# Altium integrated library Atmel Microcontroller 8-Bit Automotive AVR.IntLib: 187 symbols (part 7 of 9)
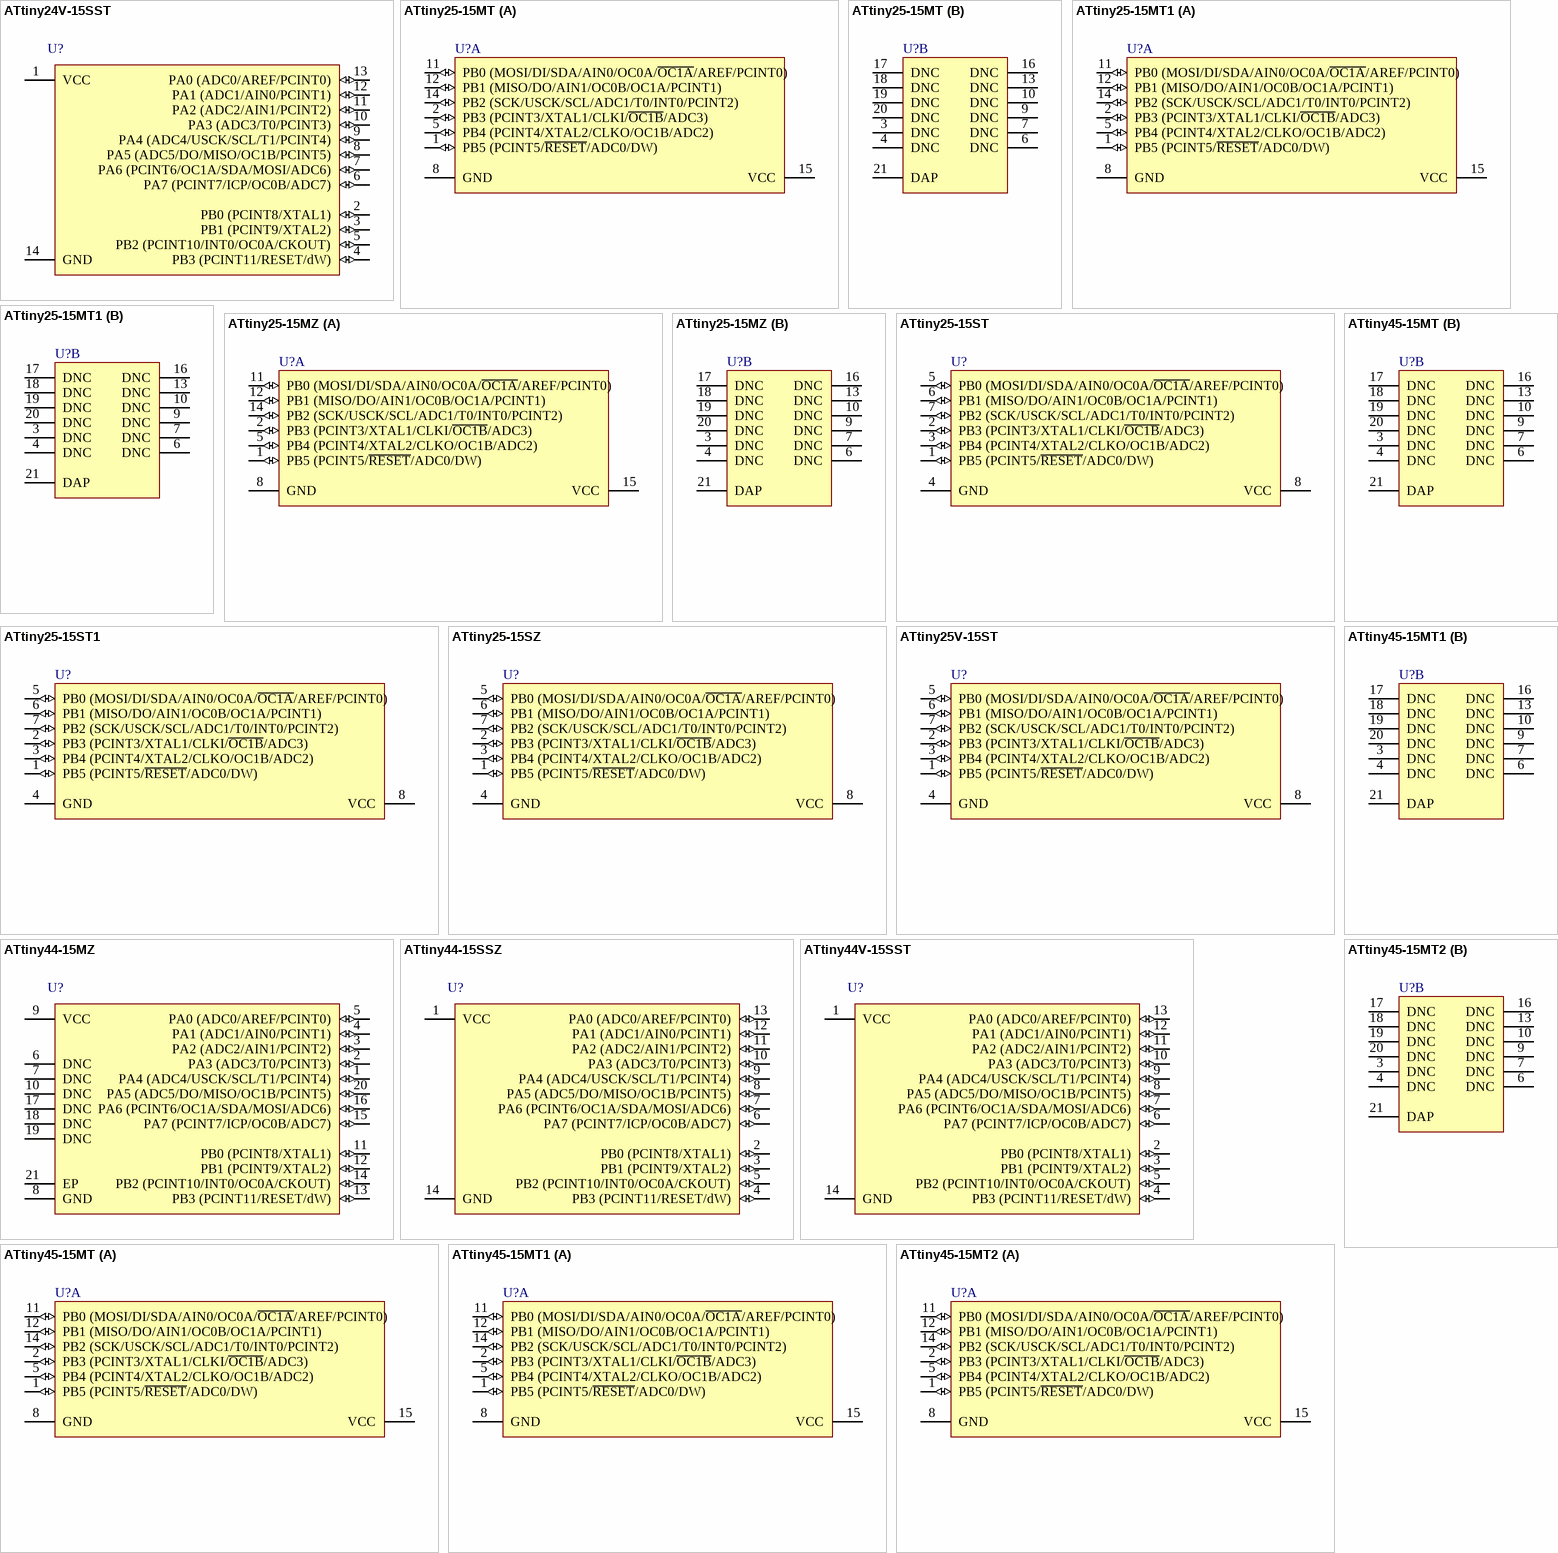
[diagram p27: symbols ATtiny24V-15SST to ATtiny45-15MT2]

## ATtiny44-15MZ
designator U?
8-bit Automotive AVR Microcontroller, 4KB Flash, 256 Bytes EEPROM, 256 Bytes SRAM, Automotive Grade (-40° to +125°C), 20-Pin VQFN; Published: 1-Apr-2010; DatasheetVersion: revB, Sep-2007; PackageVersion: revG, Jul-2007; PackageReference: 20PC; Publisher: Altium Limited; PackageDescription: 20-Lead, 4 x 4 x 0.8 mm Body, 0.50 mm Pitch, Quad Flat No-Lead Package (QFN); Supplier 1: Digi-Key; Supplier Part Number 1: ATTINY44-15MZ-ND; Supplier 2: Mouser; Supplier Part Number 2: 556-ATTINY44-15MZ; Code_JEDEC: MO-220WGGD-5; ComponentLink1Description: Manufacturer Link; ComponentLink1URL: http://www.atmel.com/products/avr/default.asp?; ComponentLink2Description: ATtiny24/44/84 Datasheet; ComponentLink2URL: http://www.atmel.com/dyn/resources/prod_documents/doc7701.pdf; ComponentLink3Description: Atmel.com Home; ComponentLink3URL: http://www.atmel.com
footprint 20PC_N (QFN, 20-Leads, Body 4x4mm, Pitch 0.5mm, IPC Medium Density)
footprint 20PC_L (QFN, 20-Leads, Body 4x4mm, Pitch 0.5mm, IPC High Density)
footprint 20PC_M (QFN, 20-Leads, Body 4x4mm, Pitch 0.5mm, IPC Low Density)
pins: 1 PA4 (ADC4/USCK/SCL/T1/PCINT4) (io), 2 PA3 (ADC3/T0/PCINT3) (io), 3 PA2 (ADC2/AIN1/PCINT2) (io), 4 PA1 (ADC1/AIN0/PCINT1) (io), 5 PA0 (ADC0/AREF/PCINT0) (io), 6 DNC, 7 DNC, 8 GND (power), 9 VCC (power), 10 DNC, 11 PB0 (PCINT8/XTAL1) (io), 12 PB1 (PCINT9/XTAL2) (io), 13 PB3 (PCINT11/RESET/dW) (io), 14 PB2 (PCINT10/INT0/OC0A/CKOUT) (io), 15 PA7 (PCINT7/ICP/OC0B/ADC7) (io), 16 PA6 (PCINT6/OC1A/SDA/MOSI/ADC6) (io), 17 DNC, 18 DNC, 19 DNC, 20 PA5 (ADC5/DO/MISO/OC1B/PCINT5) (io), 21 EP (power)

## ATtiny44-15SSZ
designator U?
8-bit Automotive AVR Microcontroller, 4KB Flash, 256 Bytes EEPROM, 256 Bytes SRAM, Automotive Grade (-40° to +125°C), 14-Pin SOIC; Published: 1-Apr-2010; DatasheetVersion: revB, Sep-2007; PackageVersion: revC, Jul-2007; PackageReference: 14TU; Publisher: Altium Limited; PackageDescription: 14-Lead, 0.150” Body Width Plastic Gull Wing Small Outline Package (SOIC); Supplier 1: Digi-Key; Supplier Part Number 1: ATTINY44-15SSZ-ND; Supplier 2: Mouser; Supplier Part Number 2: 556-ATTINY44-15SSZ; Code_IPC: SOIC127P600-14; ComponentLink1Description: Manufacturer Link; ComponentLink1URL: http://www.atmel.com/products/avr/default.asp?; ComponentLink2Description: ATtiny24/44/84 Datasheet; ComponentLink2URL: http://www.atmel.com/dyn/resources/prod_documents/doc7701.pdf; ComponentLink3Description: Atmel.com Home; ComponentLink3URL: http://www.atmel.com
footprint 14TU_N (SOIC, 14-Leads, Body 8.6x3.9mm, Pitch 1.27mm, IPC Medium Density)
footprint 14TU_L (SOIC, 14-Leads, Body 8.6x3.9mm, Pitch 1.27mm, IPC High Density)
footprint 14TU_M (SOIC, 14-Leads, Body 8.6x3.9mm, Pitch 1.27mm, IPC Low Density)
pins: 1 VCC (power), 2 PB0 (PCINT8/XTAL1) (io), 3 PB1 (PCINT9/XTAL2) (io), 4 PB3 (PCINT11/RESET/dW) (io), 5 PB2 (PCINT10/INT0/OC0A/CKOUT) (io), 6 PA7 (PCINT7/ICP/OC0B/ADC7) (io), 7 PA6 (PCINT6/OC1A/SDA/MOSI/ADC6) (io), 8 PA5 (ADC5/DO/MISO/OC1B/PCINT5) (io), 9 PA4 (ADC4/USCK/SCL/T1/PCINT4) (io), 10 PA3 (ADC3/T0/PCINT3) (io), 11 PA2 (ADC2/AIN1/PCINT2) (io), 12 PA1 (ADC1/AIN0/PCINT1) (io), 13 PA0 (ADC0/AREF/PCINT0) (io), 14 GND (power)

## ATtiny44V-15SST
designator U?
8-bit Automotive AVR Microcontroller, 4KB Flash, 256 Bytes EEPROM, 256 Bytes SRAM, Automotive Grade (-40°C to +85°C), 14-Pin SOIC; Published: 1-Apr-2010; DatasheetVersion: revB, Sep-2007; PackageVersion: revC, Jul-2007; PackageReference: 14TU; Publisher: Altium Limited; PackageDescription: 14-Lead, 0.150” Body Width Plastic Gull Wing Small Outline Package (SOIC); Supplier 1: Digi-Key; Supplier Part Number 1: ATTINY44V-15SST-ND; Supplier 2: Mouser; Supplier Part Number 2: 556-ATTINY44V-15SST; Code_IPC: SOIC127P600-14; ComponentLink1Description: Manufacturer Link; ComponentLink1URL: http://www.atmel.com/products/avr/default.asp?; ComponentLink2Description: ATtiny24/44/84 Datasheet; ComponentLink2URL: http://www.atmel.com/dyn/resources/prod_documents/doc7701.pdf; ComponentLink3Description: ATtiny24V/44V/84V Appendix; ComponentLink3URL: http://www.atmel.com/dyn/resources/prod_documents/doc7819.pdf; ComponentLink4Description: Atmel.com Home; ComponentLink4URL: http://www.atmel.com
footprint 14TU_N (SOIC, 14-Leads, Body 8.6x3.9mm, Pitch 1.27mm, IPC Medium Density)
footprint 14TU_L (SOIC, 14-Leads, Body 8.6x3.9mm, Pitch 1.27mm, IPC High Density)
footprint 14TU_M (SOIC, 14-Leads, Body 8.6x3.9mm, Pitch 1.27mm, IPC Low Density)
pins: 1 VCC (power), 2 PB0 (PCINT8/XTAL1) (io), 3 PB1 (PCINT9/XTAL2) (io), 4 PB3 (PCINT11/RESET/dW) (io), 5 PB2 (PCINT10/INT0/OC0A/CKOUT) (io), 6 PA7 (PCINT7/ICP/OC0B/ADC7) (io), 7 PA6 (PCINT6/OC1A/SDA/MOSI/ADC6) (io), 8 PA5 (ADC5/DO/MISO/OC1B/PCINT5) (io), 9 PA4 (ADC4/USCK/SCL/T1/PCINT4) (io), 10 PA3 (ADC3/T0/PCINT3) (io), 11 PA2 (ADC2/AIN1/PCINT2) (io), 12 PA1 (ADC1/AIN0/PCINT1) (io), 13 PA0 (ADC0/AREF/PCINT0) (io), 14 GND (power)

## ATtiny45-15MT
designator U?
8-bit Automotive AVR Microcontroller, 4KB Flash, 256 Bytes EEPROM, 256 Bytes SRAM, Automotive Grade (-40°C to +85°C), 20-Pin VQFN; Published: 1-Apr-2010; DatasheetVersion: revH, Jul-2009; PackageVersion: revG, Jul-2007; PackageReference: 20PC; Publisher: Altium Limited; PackageDescription: 20-Lead, 4 x 4 x 0.8 mm Body, 0.50 mm Pitch, Quad Flat No-Lead Package (QFN); Supplier 1: Digi-Key; Supplier Part Number 1: ATTINY45-15MT-ND; Supplier 2: Mouser; Supplier Part Number 2: 556-ATTINY45-15MT; Code_JEDEC: MO-220WGGD-5; ComponentLink1Description: Manufacturer Link; ComponentLink1URL: http://www.atmel.com/products/avr/default.asp?; ComponentLink2Description: ATtiny25/45/85 Datasheet; ComponentLink2URL: http://www.atmel.com/dyn/resources/prod_documents/doc7598.pdf; ComponentLink3Description: Atmel.com Home; ComponentLink3URL: http://www.atmel.com
footprint 20PC_N (QFN, 20-Leads, Body 4x4mm, Pitch 0.5mm, IPC Medium Density)
footprint 20PC_L (QFN, 20-Leads, Body 4x4mm, Pitch 0.5mm, IPC High Density)
footprint 20PC_M (QFN, 20-Leads, Body 4x4mm, Pitch 0.5mm, IPC Low Density)
part A pins: 1 PB5 (PCINT5/~{RESET}/ADC0/DW) (io), 2 PB3 (PCINT3/XTAL1/CLKI/~{OC1B}/ADC3) (io), 5 PB4 (PCINT4/XTAL2/CLKO/OC1B/ADC2) (io), 8 GND (power), 11 PB0 (MOSI/DI/SDA/AIN0/OC0A/~{OC1A}/AREF/PCINT0) (io), 12 PB1 (MISO/DO/AIN1/OC0B/OC1A/PCINT1) (io), 14 PB2 (SCK/USCK/SCL/ADC1/T0/INT0/PCINT2) (io), 15 VCC (power)
part B pins: 3 DNC, 4 DNC, 6 DNC, 7 DNC, 9 DNC, 10 DNC, 13 DNC, 16 DNC, 17 DNC, 18 DNC, 19 DNC, 20 DNC, 21 DAP

## ATtiny45-15MT1
designator U?
8-bit Automotive AVR Microcontroller, 4KB Flash, 256 Bytes EEPROM, 256 Bytes SRAM, Automotive Grade (-40°C to +105°C), 20-Pin VQFN; Published: 1-Apr-2010; DatasheetVersion: revH, Jul-2009; PackageVersion: revG, Jul-2007; PackageReference: 20PC; Publisher: Altium Limited; PackageDescription: 20-Lead, 4 x 4 x 0.8 mm Body, 0.50 mm Pitch, Quad Flat No-Lead Package (QFN); Supplier 1: Digi-Key; Supplier Part Number 1: ATTINY45-15MT1-ND; Supplier 2: Mouser; Supplier Part Number 2: 556-ATTINY45-15MT1; Code_JEDEC: MO-220WGGD-5; ComponentLink1Description: Manufacturer Link; ComponentLink1URL: http://www.atmel.com/products/avr/default.asp?; ComponentLink2Description: ATtiny25/45/85 Datasheet; ComponentLink2URL: http://www.atmel.com/dyn/resources/prod_documents/doc7598.pdf; ComponentLink3Description: Atmel.com Home; ComponentLink3URL: http://www.atmel.com
footprint 20PC_N (QFN, 20-Leads, Body 4x4mm, Pitch 0.5mm, IPC Medium Density)
footprint 20PC_L (QFN, 20-Leads, Body 4x4mm, Pitch 0.5mm, IPC High Density)
footprint 20PC_M (QFN, 20-Leads, Body 4x4mm, Pitch 0.5mm, IPC Low Density)
part A pins: 1 PB5 (PCINT5/~{RESET}/ADC0/DW) (io), 2 PB3 (PCINT3/XTAL1/CLKI/~{OC1B}/ADC3) (io), 5 PB4 (PCINT4/XTAL2/CLKO/OC1B/ADC2) (io), 8 GND (power), 11 PB0 (MOSI/DI/SDA/AIN0/OC0A/~{OC1A}/AREF/PCINT0) (io), 12 PB1 (MISO/DO/AIN1/OC0B/OC1A/PCINT1) (io), 14 PB2 (SCK/USCK/SCL/ADC1/T0/INT0/PCINT2) (io), 15 VCC (power)
part B pins: 3 DNC, 4 DNC, 6 DNC, 7 DNC, 9 DNC, 10 DNC, 13 DNC, 16 DNC, 17 DNC, 18 DNC, 19 DNC, 20 DNC, 21 DAP

## ATtiny45-15MT2
designator U?
8-bit Automotive AVR Microcontroller, 4KB Flash, 256 Bytes EEPROM, 256 Bytes SRAM, Extended Grade (-40°C to +150°C), 20-Pin VQFN; Published: 1-Apr-2010; DatasheetVersion: revH, Jul-2009; PackageVersion: revG, Jul-2007; PackageReference: 20PC; Publisher: Altium Limited; PackageDescription: 20-Lead, 4 x 4 x 0.8 mm Body, 0.50 mm Pitch, Quad Flat No-Lead Package (QFN); Supplier 1: Digi-Key; Supplier Part Number 1: ATTINY45-15MT2-ND; Supplier 2: Mouser; Supplier Part Number 2: 556-ATTINY45-15MT2; Code_JEDEC: MO-220WGGD-5; ComponentLink1Description: Manufacturer Link; ComponentLink1URL: http://www.atmel.com/products/avr/default.asp?; ComponentLink2Description: ATtiny25/45/85 Datasheet; ComponentLink2URL: http://www.atmel.com/dyn/resources/prod_documents/doc7598.pdf; ComponentLink3Description: ATtiny45 Appendix; ComponentLink3URL: http://www.atmel.com/dyn/resources/prod_documents/doc7696.pdf; ComponentLink4Description: Atmel.com Home; ComponentLink4URL: http://www.atmel.com
footprint 20PC_N (QFN, 20-Leads, Body 4x4mm, Pitch 0.5mm, IPC Medium Density)
footprint 20PC_L (QFN, 20-Leads, Body 4x4mm, Pitch 0.5mm, IPC High Density)
footprint 20PC_M (QFN, 20-Leads, Body 4x4mm, Pitch 0.5mm, IPC Low Density)
part A pins: 1 PB5 (PCINT5/~{RESET}/ADC0/DW) (io), 2 PB3 (PCINT3/XTAL1/CLKI/~{OC1B}/ADC3) (io), 5 PB4 (PCINT4/XTAL2/CLKO/OC1B/ADC2) (io), 8 GND (power), 11 PB0 (MOSI/DI/SDA/AIN0/OC0A/~{OC1A}/AREF/PCINT0) (io), 12 PB1 (MISO/DO/AIN1/OC0B/OC1A/PCINT1) (io), 14 PB2 (SCK/USCK/SCL/ADC1/T0/INT0/PCINT2) (io), 15 VCC (power)
part B pins: 3 DNC, 4 DNC, 6 DNC, 7 DNC, 9 DNC, 10 DNC, 13 DNC, 16 DNC, 17 DNC, 18 DNC, 19 DNC, 20 DNC, 21 DAP

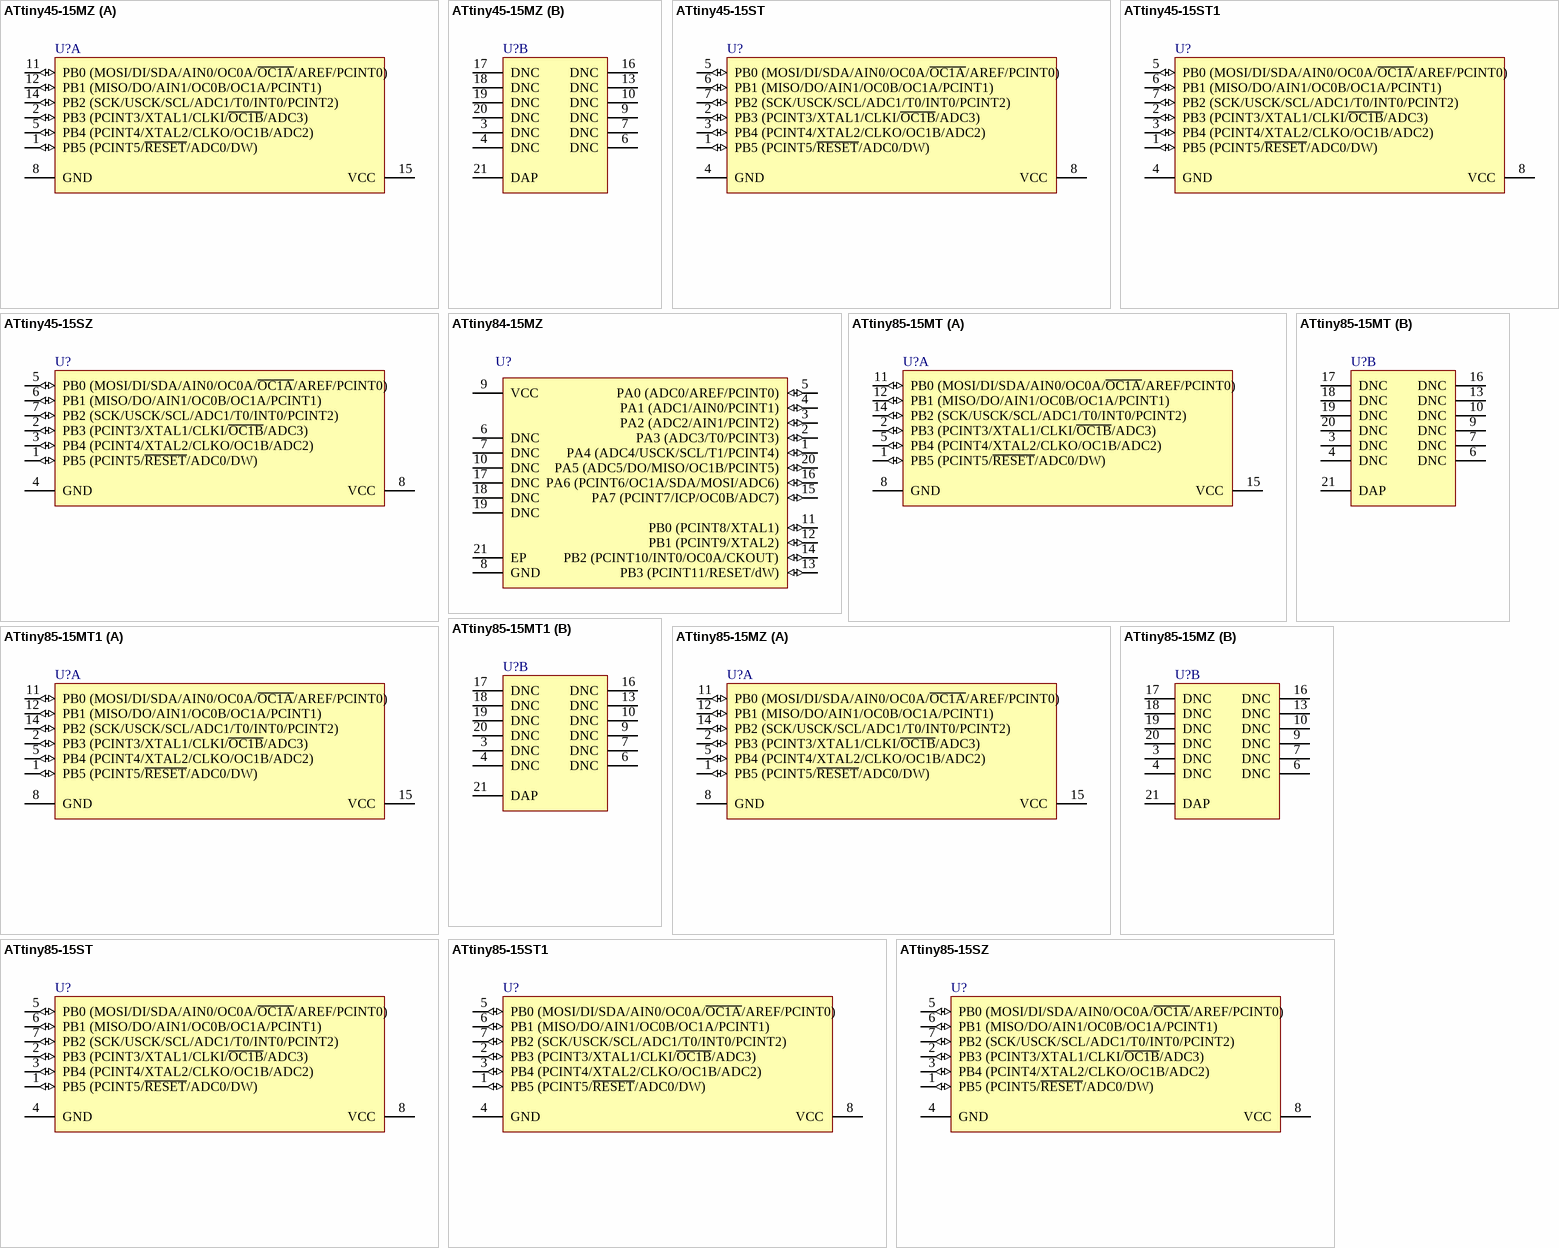
[diagram p17: symbols ATtiny45-15MZ to ATtiny85-15SZ]

## ATtiny45-15MZ
designator U?
8-bit Automotive AVR Microcontroller, 4KB Flash, 256 Bytes EEPROM, 256 Bytes SRAM, Automotive Grade (-40°C to +125°C), 20-Pin VQFN; Published: 1-Apr-2010; DatasheetVersion: revH, Jul-2009; PackageVersion: revG, Jul-2007; PackageReference: 20PC; Publisher: Altium Limited; PackageDescription: 20-Lead, 4 x 4 x 0.8 mm Body, 0.50 mm Pitch, Quad Flat No-Lead Package (QFN); Supplier 1: Digi-Key; Supplier Part Number 1: ATTINY45-15MZ-ND; Supplier 2: Mouser; Supplier Part Number 2: 556-ATTINY45-15MZ; Code_JEDEC: MO-220WGGD-5; ComponentLink1Description: Manufacturer Link; ComponentLink1URL: http://www.atmel.com/products/avr/default.asp?; ComponentLink2Description: ATtiny25/45/85 Datasheet; ComponentLink2URL: http://www.atmel.com/dyn/resources/prod_documents/doc7598.pdf; ComponentLink3Description: Atmel.com Home; ComponentLink3URL: http://www.atmel.com
footprint 20PC_N (QFN, 20-Leads, Body 4x4mm, Pitch 0.5mm, IPC Medium Density)
footprint 20PC_L (QFN, 20-Leads, Body 4x4mm, Pitch 0.5mm, IPC High Density)
footprint 20PC_M (QFN, 20-Leads, Body 4x4mm, Pitch 0.5mm, IPC Low Density)
part A pins: 1 PB5 (PCINT5/~{RESET}/ADC0/DW) (io), 2 PB3 (PCINT3/XTAL1/CLKI/~{OC1B}/ADC3) (io), 5 PB4 (PCINT4/XTAL2/CLKO/OC1B/ADC2) (io), 8 GND (power), 11 PB0 (MOSI/DI/SDA/AIN0/OC0A/~{OC1A}/AREF/PCINT0) (io), 12 PB1 (MISO/DO/AIN1/OC0B/OC1A/PCINT1) (io), 14 PB2 (SCK/USCK/SCL/ADC1/T0/INT0/PCINT2) (io), 15 VCC (power)
part B pins: 3 DNC, 4 DNC, 6 DNC, 7 DNC, 9 DNC, 10 DNC, 13 DNC, 16 DNC, 17 DNC, 18 DNC, 19 DNC, 20 DNC, 21 DAP

## ATtiny45-15ST
designator U?
8-bit Automotive AVR Microcontroller, 4KB Flash, 256 Bytes EEPROM, 256 Bytes SRAM, Automotive Grade (-40°C to +85°C), 8-Pin SOIC; Published: 1-Apr-2010; DatasheetVersion: revH, Jul-2009; PackageVersion: 2009; PackageReference: T5; Publisher: Altium Limited; PackageDescription: 8-Lead, 0.208" Body, Plastic Small Outline Package; Supplier 1: Digi-Key; Supplier Part Number 1: ATTINY45-15ST-ND; Supplier 2: Mouser; Supplier Part Number 2: 556-ATTINY45-15ST; ComponentLink1Description: Manufacturer Link; ComponentLink1URL: http://www.atmel.com/products/avr/default.asp?; ComponentLink2Description: ATtiny25/45/85 Datasheet; ComponentLink2URL: http://www.atmel.com/dyn/resources/prod_documents/doc7598.pdf; ComponentLink3Description: Atmel.com Home; ComponentLink3URL: http://www.atmel.com
footprint T5_N (SOP, 8-Leads, Body 5.2x5.3mm, Pitch 1.27mm, IPC Medium Density)
footprint T5_L (SOP, 8-Leads, Body 5.2x5.3mm, Pitch 1.27mm, IPC High Density)
footprint T5_M (SOP, 8-Leads, Body 5.2x5.3mm, Pitch 1.27mm, IPC Low Density)
pins: 1 PB5 (PCINT5/~{RESET}/ADC0/DW) (io), 2 PB3 (PCINT3/XTAL1/CLKI/~{OC1B}/ADC3) (io), 3 PB4 (PCINT4/XTAL2/CLKO/OC1B/ADC2) (io), 4 GND (power), 5 PB0 (MOSI/DI/SDA/AIN0/OC0A/~{OC1A}/AREF/PCINT0) (io), 6 PB1 (MISO/DO/AIN1/OC0B/OC1A/PCINT1) (io), 7 PB2 (SCK/USCK/SCL/ADC1/T0/INT0/PCINT2) (io), 8 VCC (power)

## ATtiny45-15ST1
designator U?
8-bit Automotive AVR Microcontroller, 4KB Flash, 256 Bytes EEPROM, 256 Bytes SRAM, Automotive Grade (-40°C to +105°C), 8-Pin SOIC; Published: 1-Apr-2010; DatasheetVersion: revH, Jul-2009; PackageVersion: 2009; PackageReference: T5; Publisher: Altium Limited; PackageDescription: 8-Lead, 0.208" Body, Plastic Small Outline Package; Supplier 1: Digi-Key; Supplier Part Number 1: ATTINY45-15ST1-ND; Supplier 2: Mouser; Supplier Part Number 2: 556-ATTINY45-15ST1; ComponentLink1Description: Manufacturer Link; ComponentLink1URL: http://www.atmel.com/products/avr/default.asp?; ComponentLink2Description: ATtiny25/45/85 Datasheet; ComponentLink2URL: http://www.atmel.com/dyn/resources/prod_documents/doc7598.pdf; ComponentLink3Description: Atmel.com Home; ComponentLink3URL: http://www.atmel.com
footprint T5_N (SOP, 8-Leads, Body 5.2x5.3mm, Pitch 1.27mm, IPC Medium Density)
footprint T5_L (SOP, 8-Leads, Body 5.2x5.3mm, Pitch 1.27mm, IPC High Density)
footprint T5_M (SOP, 8-Leads, Body 5.2x5.3mm, Pitch 1.27mm, IPC Low Density)
pins: 1 PB5 (PCINT5/~{RESET}/ADC0/DW) (io), 2 PB3 (PCINT3/XTAL1/CLKI/~{OC1B}/ADC3) (io), 3 PB4 (PCINT4/XTAL2/CLKO/OC1B/ADC2) (io), 4 GND (power), 5 PB0 (MOSI/DI/SDA/AIN0/OC0A/~{OC1A}/AREF/PCINT0) (io), 6 PB1 (MISO/DO/AIN1/OC0B/OC1A/PCINT1) (io), 7 PB2 (SCK/USCK/SCL/ADC1/T0/INT0/PCINT2) (io), 8 VCC (power)

## ATtiny45-15SZ
designator U?
8-bit Automotive AVR Microcontroller, 4KB Flash, 256 Bytes EEPROM, 256 Bytes SRAM, Automotive Grade (-40°C to +125°C), 8-Pin SOIC; Published: 1-Apr-2010; DatasheetVersion: revH, Jul-2009; PackageVersion: 2009; PackageReference: T5; Publisher: Altium Limited; PackageDescription: 8-Lead, 0.208" Body, Plastic Small Outline Package; Supplier 1: Digi-Key; Supplier Part Number 1: ATTINY45-15SZ-ND; ComponentLink1Description: Manufacturer Link; ComponentLink1URL: http://www.atmel.com/products/avr/default.asp?; ComponentLink2Description: ATtiny25/45/85 Datasheet; ComponentLink2URL: http://www.atmel.com/dyn/resources/prod_documents/doc7598.pdf; ComponentLink3Description: Atmel.com Home; ComponentLink3URL: http://www.atmel.com
footprint T5_N (SOP, 8-Leads, Body 5.2x5.3mm, Pitch 1.27mm, IPC Medium Density)
footprint T5_L (SOP, 8-Leads, Body 5.2x5.3mm, Pitch 1.27mm, IPC High Density)
footprint T5_M (SOP, 8-Leads, Body 5.2x5.3mm, Pitch 1.27mm, IPC Low Density)
pins: 1 PB5 (PCINT5/~{RESET}/ADC0/DW) (io), 2 PB3 (PCINT3/XTAL1/CLKI/~{OC1B}/ADC3) (io), 3 PB4 (PCINT4/XTAL2/CLKO/OC1B/ADC2) (io), 4 GND (power), 5 PB0 (MOSI/DI/SDA/AIN0/OC0A/~{OC1A}/AREF/PCINT0) (io), 6 PB1 (MISO/DO/AIN1/OC0B/OC1A/PCINT1) (io), 7 PB2 (SCK/USCK/SCL/ADC1/T0/INT0/PCINT2) (io), 8 VCC (power)

## ATtiny84-15MZ
designator U?
8-bit Automotive AVR Microcontroller, 8KB Flash, 512 Bytes EEPROM, 512 Bytes SRAM, Automotive Grade (-40° to +125°C), 20-Pin VQFN; Published: 1-Apr-2010; DatasheetVersion: revB, Sep-2007; PackageVersion: revG, Jul-2007; PackageReference: 20PC; Publisher: Altium Limited; PackageDescription: 20-Lead, 4 x 4 x 0.8 mm Body, 0.50 mm Pitch, Quad Flat No-Lead Package (QFN); Supplier 1: Digi-Key; Supplier Part Number 1: ATTINY84-15MZ-ND; Supplier 2: Mouser; Supplier Part Number 2: 556-ATTINY84-15MZ; Code_JEDEC: MO-220WGGD-5; ComponentLink1Description: Manufacturer Link; ComponentLink1URL: http://www.atmel.com/products/avr/default.asp?; ComponentLink2Description: ATtiny24/44/84 Datasheet; ComponentLink2URL: http://www.atmel.com/dyn/resources/prod_documents/doc7701.pdf; ComponentLink3Description: Atmel.com Home; ComponentLink3URL: http://www.atmel.com
footprint 20PC_N (QFN, 20-Leads, Body 4x4mm, Pitch 0.5mm, IPC Medium Density)
footprint 20PC_L (QFN, 20-Leads, Body 4x4mm, Pitch 0.5mm, IPC High Density)
footprint 20PC_M (QFN, 20-Leads, Body 4x4mm, Pitch 0.5mm, IPC Low Density)
pins: 1 PA4 (ADC4/USCK/SCL/T1/PCINT4) (io), 2 PA3 (ADC3/T0/PCINT3) (io), 3 PA2 (ADC2/AIN1/PCINT2) (io), 4 PA1 (ADC1/AIN0/PCINT1) (io), 5 PA0 (ADC0/AREF/PCINT0) (io), 6 DNC, 7 DNC, 8 GND (power), 9 VCC (power), 10 DNC, 11 PB0 (PCINT8/XTAL1) (io), 12 PB1 (PCINT9/XTAL2) (io), 13 PB3 (PCINT11/RESET/dW) (io), 14 PB2 (PCINT10/INT0/OC0A/CKOUT) (io), 15 PA7 (PCINT7/ICP/OC0B/ADC7) (io), 16 PA6 (PCINT6/OC1A/SDA/MOSI/ADC6) (io), 17 DNC, 18 DNC, 19 DNC, 20 PA5 (ADC5/DO/MISO/OC1B/PCINT5) (io), 21 EP (power)

## ATtiny85-15MT
designator U?
8-bit Automotive AVR Microcontroller, 8KB Flash, 512 Bytes EEPROM, 512 Bytes SRAM, Automotive Grade (-40°C to +85°C), 20-Pin VQFN; Published: 1-Apr-2010; DatasheetVersion: revH, Jul-2009; PackageVersion: revG, Jul-2007; PackageReference: 20PC; Publisher: Altium Limited; PackageDescription: 20-Lead, 4 x 4 x 0.8 mm Body, 0.50 mm Pitch, Quad Flat No-Lead Package (QFN); Supplier 1: Digi-Key; Supplier Part Number 1: ATTINY85-15MT-ND; Supplier 2: Mouser; Supplier Part Number 2: 556-ATTINY85-15MT; Code_JEDEC: MO-220WGGD-5; ComponentLink1Description: Manufacturer Link; ComponentLink1URL: http://www.atmel.com/products/avr/default.asp?; ComponentLink2Description: ATtiny25/45/85 Datasheet; ComponentLink2URL: http://www.atmel.com/dyn/resources/prod_documents/doc7598.pdf; ComponentLink3Description: Atmel.com Home; ComponentLink3URL: http://www.atmel.com
footprint 20PC_N (QFN, 20-Leads, Body 4x4mm, Pitch 0.5mm, IPC Medium Density)
footprint 20PC_L (QFN, 20-Leads, Body 4x4mm, Pitch 0.5mm, IPC High Density)
footprint 20PC_M (QFN, 20-Leads, Body 4x4mm, Pitch 0.5mm, IPC Low Density)
part A pins: 1 PB5 (PCINT5/~{RESET}/ADC0/DW) (io), 2 PB3 (PCINT3/XTAL1/CLKI/~{OC1B}/ADC3) (io), 5 PB4 (PCINT4/XTAL2/CLKO/OC1B/ADC2) (io), 8 GND (power), 11 PB0 (MOSI/DI/SDA/AIN0/OC0A/~{OC1A}/AREF/PCINT0) (io), 12 PB1 (MISO/DO/AIN1/OC0B/OC1A/PCINT1) (io), 14 PB2 (SCK/USCK/SCL/ADC1/T0/INT0/PCINT2) (io), 15 VCC (power)
part B pins: 3 DNC, 4 DNC, 6 DNC, 7 DNC, 9 DNC, 10 DNC, 13 DNC, 16 DNC, 17 DNC, 18 DNC, 19 DNC, 20 DNC, 21 DAP

## ATtiny85-15MT1
designator U?
8-bit Automotive AVR Microcontroller, 8KB Flash, 512 Bytes EEPROM, 512 Bytes SRAM, Automotive Grade (-40°C to +105°C), 20-Pin VQFN; Published: 1-Apr-2010; DatasheetVersion: revH, Jul-2009; PackageVersion: revG, Jul-2007; PackageReference: 20PC; Publisher: Altium Limited; PackageDescription: 20-Lead, 4 x 4 x 0.8 mm Body, 0.50 mm Pitch, Quad Flat No-Lead Package (QFN); Supplier 1: Digi-Key; Supplier Part Number 1: ATTINY85-15MT1-ND; Supplier 2: Mouser; Supplier Part Number 2: 556-ATTINY85-15MT1; Code_JEDEC: MO-220WGGD-5; ComponentLink1Description: Manufacturer Link; ComponentLink1URL: http://www.atmel.com/products/avr/default.asp?; ComponentLink2Description: ATtiny25/45/85 Datasheet; ComponentLink2URL: http://www.atmel.com/dyn/resources/prod_documents/doc7598.pdf; ComponentLink3Description: Atmel.com Home; ComponentLink3URL: http://www.atmel.com
footprint 20PC_N (QFN, 20-Leads, Body 4x4mm, Pitch 0.5mm, IPC Medium Density)
footprint 20PC_L (QFN, 20-Leads, Body 4x4mm, Pitch 0.5mm, IPC High Density)
footprint 20PC_M (QFN, 20-Leads, Body 4x4mm, Pitch 0.5mm, IPC Low Density)
part A pins: 1 PB5 (PCINT5/~{RESET}/ADC0/DW) (io), 2 PB3 (PCINT3/XTAL1/CLKI/~{OC1B}/ADC3) (io), 5 PB4 (PCINT4/XTAL2/CLKO/OC1B/ADC2) (io), 8 GND (power), 11 PB0 (MOSI/DI/SDA/AIN0/OC0A/~{OC1A}/AREF/PCINT0) (io), 12 PB1 (MISO/DO/AIN1/OC0B/OC1A/PCINT1) (io), 14 PB2 (SCK/USCK/SCL/ADC1/T0/INT0/PCINT2) (io), 15 VCC (power)
part B pins: 3 DNC, 4 DNC, 6 DNC, 7 DNC, 9 DNC, 10 DNC, 13 DNC, 16 DNC, 17 DNC, 18 DNC, 19 DNC, 20 DNC, 21 DAP

## ATtiny85-15MZ
designator U?
8-bit Automotive AVR Microcontroller, 8KB Flash, 512 Bytes EEPROM, 512 Bytes SRAM, Automotive Grade (-40°C to +125°C), 20-Pin VQFN; Published: 1-Apr-2010; DatasheetVersion: revH, Jul-2009; PackageVersion: revG, Jul-2007; PackageReference: 20PC; Publisher: Altium Limited; PackageDescription: 20-Lead, 4 x 4 x 0.8 mm Body, 0.50 mm Pitch, Quad Flat No-Lead Package (QFN); Supplier 1: Digi-Key; Supplier Part Number 1: ATTINY85-15MZ-ND; Supplier 2: Mouser; Supplier Part Number 2: 556-ATTINY85-15MZ; Code_JEDEC: MO-220WGGD-5; ComponentLink1Description: Manufacturer Link; ComponentLink1URL: http://www.atmel.com/products/avr/default.asp?; ComponentLink2Description: ATtiny25/45/85 Datasheet; ComponentLink2URL: http://www.atmel.com/dyn/resources/prod_documents/doc7598.pdf; ComponentLink3Description: Atmel.com Home; ComponentLink3URL: http://www.atmel.com
footprint 20PC_N (QFN, 20-Leads, Body 4x4mm, Pitch 0.5mm, IPC Medium Density)
footprint 20PC_L (QFN, 20-Leads, Body 4x4mm, Pitch 0.5mm, IPC High Density)
footprint 20PC_M (QFN, 20-Leads, Body 4x4mm, Pitch 0.5mm, IPC Low Density)
part A pins: 1 PB5 (PCINT5/~{RESET}/ADC0/DW) (io), 2 PB3 (PCINT3/XTAL1/CLKI/~{OC1B}/ADC3) (io), 5 PB4 (PCINT4/XTAL2/CLKO/OC1B/ADC2) (io), 8 GND (power), 11 PB0 (MOSI/DI/SDA/AIN0/OC0A/~{OC1A}/AREF/PCINT0) (io), 12 PB1 (MISO/DO/AIN1/OC0B/OC1A/PCINT1) (io), 14 PB2 (SCK/USCK/SCL/ADC1/T0/INT0/PCINT2) (io), 15 VCC (power)
part B pins: 3 DNC, 4 DNC, 6 DNC, 7 DNC, 9 DNC, 10 DNC, 13 DNC, 16 DNC, 17 DNC, 18 DNC, 19 DNC, 20 DNC, 21 DAP

## ATtiny85-15ST
designator U?
8-bit Automotive AVR Microcontroller, 8KB Flash, 512 Bytes EEPROM, 512 Bytes SRAM, Automotive Grade (-40°C to +85°C), 8-Pin SOIC; Published: 1-Apr-2010; DatasheetVersion: revH, Jul-2009; PackageVersion: 2009; PackageReference: T5; Publisher: Altium Limited; PackageDescription: 8-Lead, 0.208" Body, Plastic Small Outline Package; Supplier 1: Digi-Key; Supplier Part Number 1: ATTINY85-15ST-ND; Supplier 2: Mouser; Supplier Part Number 2: 556-ATTINY85-15ST; ComponentLink1Description: Manufacturer Link; ComponentLink1URL: http://www.atmel.com/products/avr/default.asp?; ComponentLink2Description: ATtiny25/45/85 Datasheet; ComponentLink2URL: http://www.atmel.com/dyn/resources/prod_documents/doc7598.pdf; ComponentLink3Description: Atmel.com Home; ComponentLink3URL: http://www.atmel.com
footprint T5_N (SOP, 8-Leads, Body 5.2x5.3mm, Pitch 1.27mm, IPC Medium Density)
footprint T5_L (SOP, 8-Leads, Body 5.2x5.3mm, Pitch 1.27mm, IPC High Density)
footprint T5_M (SOP, 8-Leads, Body 5.2x5.3mm, Pitch 1.27mm, IPC Low Density)
pins: 1 PB5 (PCINT5/~{RESET}/ADC0/DW) (io), 2 PB3 (PCINT3/XTAL1/CLKI/~{OC1B}/ADC3) (io), 3 PB4 (PCINT4/XTAL2/CLKO/OC1B/ADC2) (io), 4 GND (power), 5 PB0 (MOSI/DI/SDA/AIN0/OC0A/~{OC1A}/AREF/PCINT0) (io), 6 PB1 (MISO/DO/AIN1/OC0B/OC1A/PCINT1) (io), 7 PB2 (SCK/USCK/SCL/ADC1/T0/INT0/PCINT2) (io), 8 VCC (power)

## ATtiny85-15ST1
designator U?
8-bit Automotive AVR Microcontroller, 8KB Flash, 512 Bytes EEPROM, 512 Bytes SRAM, Automotive Grade (-40°C to +105°C), 8-Pin SOIC; Published: 1-Apr-2010; DatasheetVersion: revH, Jul-2009; PackageVersion: 2009; PackageReference: T5; Publisher: Altium Limited; PackageDescription: 8-Lead, 0.208" Body, Plastic Small Outline Package; Supplier 1: Digi-Key; Supplier Part Number 1: ATTINY85-15ST1-ND; Supplier 2: Mouser; Supplier Part Number 2: 556-ATTINY85-15ST1; ComponentLink1Description: Manufacturer Link; ComponentLink1URL: http://www.atmel.com/products/avr/default.asp?; ComponentLink2Description: ATtiny25/45/85 Datasheet; ComponentLink2URL: http://www.atmel.com/dyn/resources/prod_documents/doc7598.pdf; ComponentLink3Description: Atmel.com Home; ComponentLink3URL: http://www.atmel.com
footprint T5_N (SOP, 8-Leads, Body 5.2x5.3mm, Pitch 1.27mm, IPC Medium Density)
footprint T5_L (SOP, 8-Leads, Body 5.2x5.3mm, Pitch 1.27mm, IPC High Density)
footprint T5_M (SOP, 8-Leads, Body 5.2x5.3mm, Pitch 1.27mm, IPC Low Density)
pins: 1 PB5 (PCINT5/~{RESET}/ADC0/DW) (io), 2 PB3 (PCINT3/XTAL1/CLKI/~{OC1B}/ADC3) (io), 3 PB4 (PCINT4/XTAL2/CLKO/OC1B/ADC2) (io), 4 GND (power), 5 PB0 (MOSI/DI/SDA/AIN0/OC0A/~{OC1A}/AREF/PCINT0) (io), 6 PB1 (MISO/DO/AIN1/OC0B/OC1A/PCINT1) (io), 7 PB2 (SCK/USCK/SCL/ADC1/T0/INT0/PCINT2) (io), 8 VCC (power)

## ATtiny85-15SZ
designator U?
8-bit Automotive AVR Microcontroller, 8KB Flash, 512 Bytes EEPROM, 512 Bytes SRAM, Automotive Grade (-40°C to +125°C), 8-Pin SOIC; Published: 1-Apr-2010; DatasheetVersion: revH, Jul-2009; PackageVersion: 2009; PackageReference: T5; Publisher: Altium Limited; PackageDescription: 8-Lead, 0.208" Body, Plastic Small Outline Package; Supplier 1: Digi-Key; Supplier Part Number 1: ATTINY85-15SZ-ND; Supplier 2: Mouser; Supplier Part Number 2: 556-ATTINY85-15SZ; ComponentLink1Description: Manufacturer Link; ComponentLink1URL: http://www.atmel.com/products/avr/default.asp?; ComponentLink2Description: ATtiny25/45/85 Datasheet; ComponentLink2URL: http://www.atmel.com/dyn/resources/prod_documents/doc7598.pdf; ComponentLink3Description: Atmel.com Home; ComponentLink3URL: http://www.atmel.com
footprint T5_N (SOP, 8-Leads, Body 5.2x5.3mm, Pitch 1.27mm, IPC Medium Density)
footprint T5_L (SOP, 8-Leads, Body 5.2x5.3mm, Pitch 1.27mm, IPC High Density)
footprint T5_M (SOP, 8-Leads, Body 5.2x5.3mm, Pitch 1.27mm, IPC Low Density)
pins: 1 PB5 (PCINT5/~{RESET}/ADC0/DW) (io), 2 PB3 (PCINT3/XTAL1/CLKI/~{OC1B}/ADC3) (io), 3 PB4 (PCINT4/XTAL2/CLKO/OC1B/ADC2) (io), 4 GND (power), 5 PB0 (MOSI/DI/SDA/AIN0/OC0A/~{OC1A}/AREF/PCINT0) (io), 6 PB1 (MISO/DO/AIN1/OC0B/OC1A/PCINT1) (io), 7 PB2 (SCK/USCK/SCL/ADC1/T0/INT0/PCINT2) (io), 8 VCC (power)

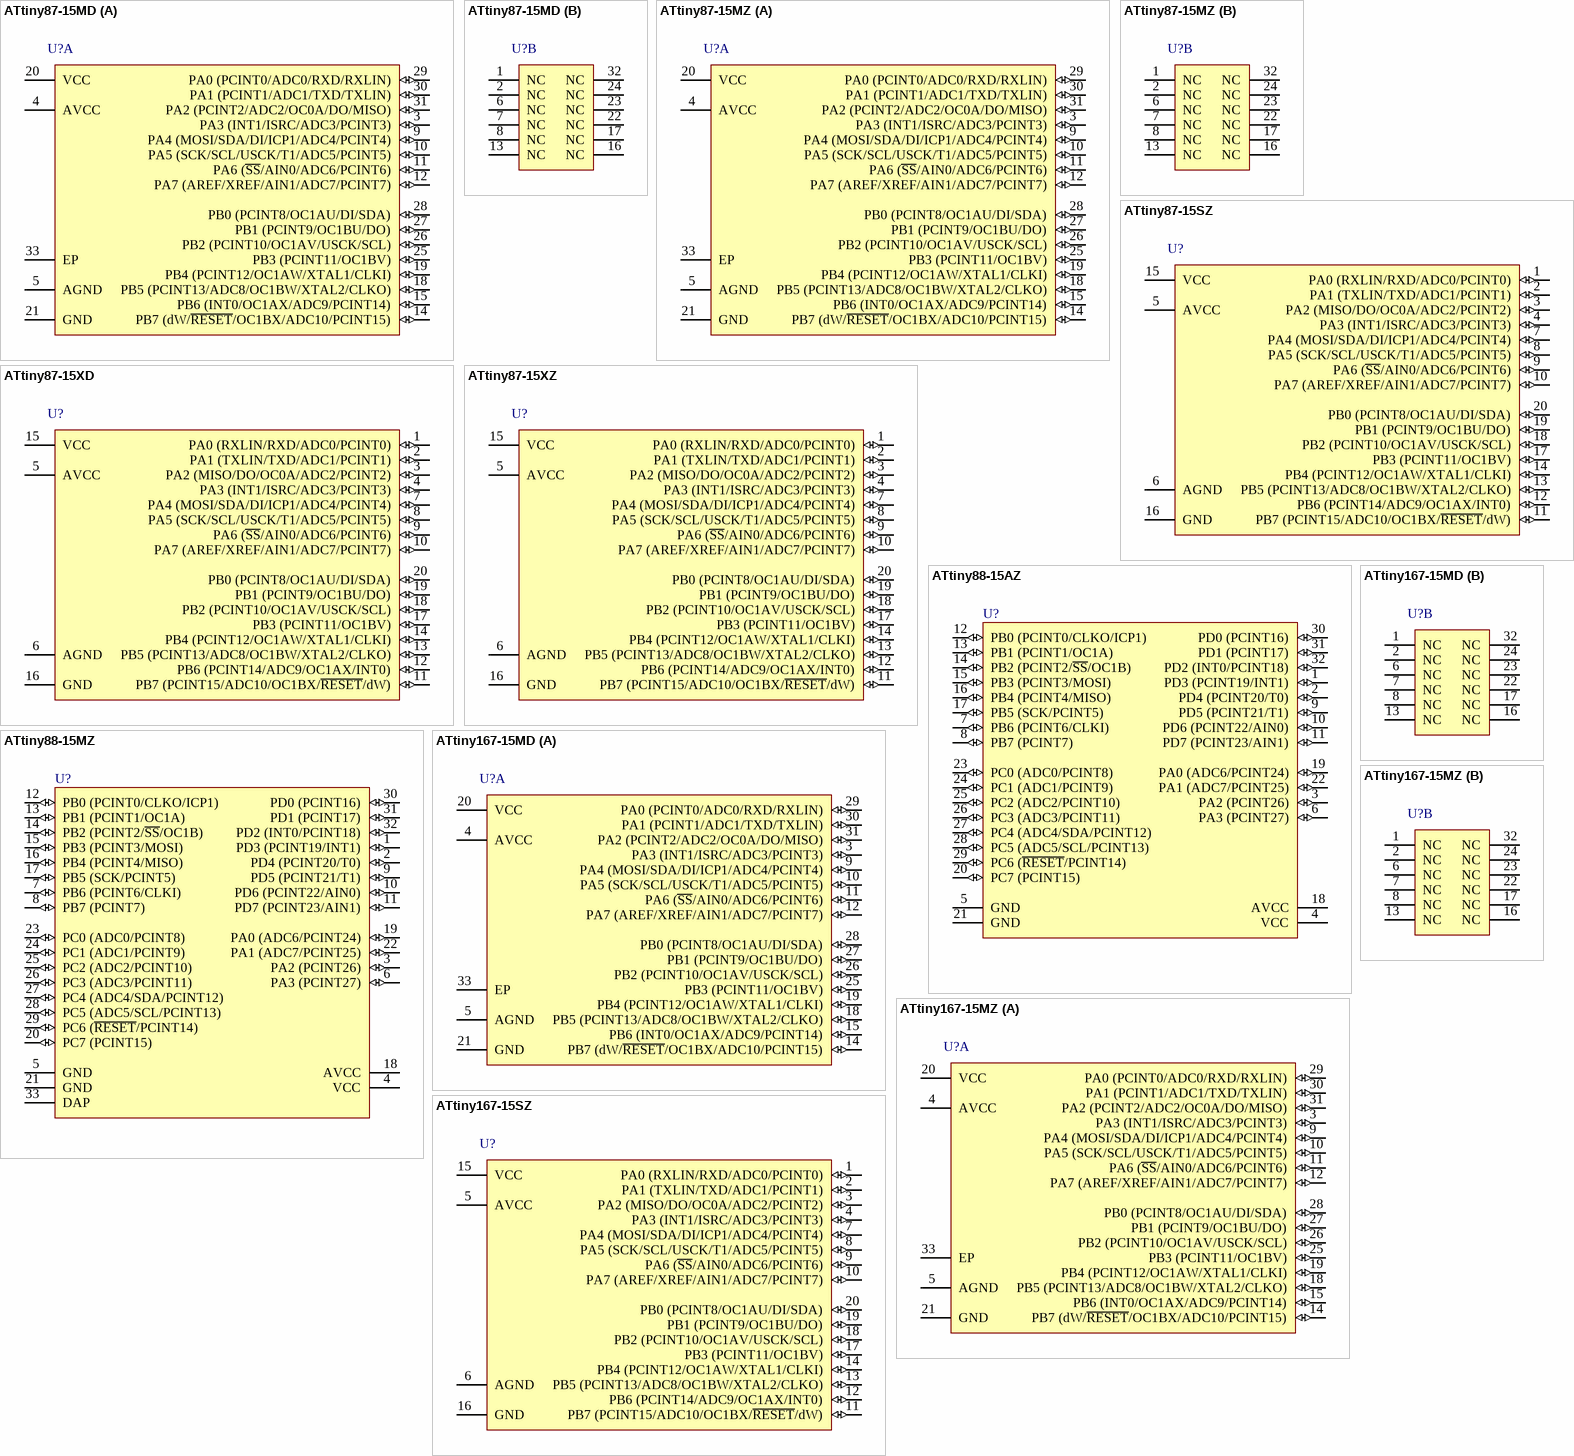
[diagram p18: symbols ATtiny87-15MD to ATtiny167-15SZ]

## ATtiny87-15MD
designator U?
8-bit Automotive AVR Microcontroller, 8KB Flash, 512 Bytes EEPROM, 512 Bytes SRAM, Extended Grade (-40°C to +150°C), 32-Pin VQFN; Published: 1-Apr-2010; DatasheetVersion: revD, Jul-2009; PackageVersion: revG, Nov-2008; PackageReference: 32PN; Publisher: Altium Limited; PackageDescription: 32-Pin Quad Flat No-Lead, 5 x 5 mm Body,  0.5 mm Pitch (QFN); Code_JEDEC: MO-220-VHHD-2; ComponentLink1Description: Manufacturer Link; ComponentLink1URL: http://www.atmel.com/products/avr/default.asp?; ComponentLink2Description: ATtiny87/ATtiny167 Datasheet; ComponentLink2URL: http://www.atmel.com/dyn/resources/prod_documents/doc7728.pdf; ComponentLink3Description: ATtiny87/ATtiny167 Appendix; ComponentLink3URL: http://www.atmel.com/dyn/resources/prod_documents/doc7792.pdf; ComponentLink4Description: Atmel.com Home; ComponentLink4URL: http://www.atmel.com
footprint 32PN_N (QFN, 32-Leads, Body 5x5mm, Pitch 0.5mm, IPC Medium Density)
footprint 32PN_L (QFN, 32-Leads, Body 5x5mm, Pitch 0.5mm, IPC High Density)
footprint 32PN_M (QFN, 32-Leads, Body 5x5mm, Pitch 0.5mm, IPC Low Density)
part A pins: 3 PA3 (INT1/ISRC/ADC3/PCINT3) (io), 4 AVCC (power), 5 AGND (power), 9 PA4 (MOSI/SDA/DI/ICP1/ADC4/PCINT4) (io), 10 PA5 (SCK/SCL/USCK/T1/ADC5/PCINT5) (io), 11 PA6 (~{SS}/AIN0/ADC6/PCINT6) (io), 12 PA7 (AREF/XREF/AIN1/ADC7/PCINT7) (io), 14 PB7 (dW/~{RESET}/OC1BX/ADC10/PCINT15) (io), 15 PB6 (INT0/OC1AX/ADC9/PCINT14) (io), 18 PB5 (PCINT13/ADC8/OC1BW/XTAL2/CLKO) (io), 19 PB4 (PCINT12/OC1AW/XTAL1/CLKI) (io), 20 VCC (power), 21 GND (power), 25 PB3 (PCINT11/OC1BV) (io), 26 PB2 (PCINT10/OC1AV/USCK/SCL) (io), 27 PB1 (PCINT9/OC1BU/DO) (io), 28 PB0 (PCINT8/OC1AU/DI/SDA) (io), 29 PA0 (PCINT0/ADC0/RXD/RXLIN) (io), 30 PA1 (PCINT1/ADC1/TXD/TXLIN) (io), 31 PA2 (PCINT2/ADC2/OC0A/DO/MISO) (io), 33 EP (power)
part B pins: 1 NC, 2 NC, 6 NC, 7 NC, 8 NC, 13 NC, 16 NC, 17 NC, 22 NC, 23 NC, 24 NC, 32 NC

## ATtiny87-15MZ
designator U?
8-bit Automotive AVR Microcontroller, 8KB Flash, 512 Bytes EEPROM, 512 Bytes SRAM, Automotive Grade (-40°C to +125°C), 32-Pin VQFN; Published: 1-Apr-2010; DatasheetVersion: revD, Jul-2009; PackageVersion: revG, Nov-2008; PackageReference: 32PN; Publisher: Altium Limited; PackageDescription: 32-Pin Quad Flat No-Lead, 5 x 5 mm Body,  0.5 mm Pitch (QFN); Supplier 1: Digi-Key; Supplier Part Number 1: ATTINY87-15MZ-ND; Supplier 2: Mouser; Supplier Part Number 2: 556-ATTINY87-15MZ; Code_JEDEC: MO-220-VHHD-2; ComponentLink1Description: Manufacturer Link; ComponentLink1URL: http://www.atmel.com/products/avr/default.asp?; ComponentLink2Description: ATtiny87/ATtiny167 Datasheet; ComponentLink2URL: http://www.atmel.com/dyn/resources/prod_documents/doc7728.pdf; ComponentLink3Description: Atmel.com Home; ComponentLink3URL: http://www.atmel.com
footprint 32PN_N (QFN, 32-Leads, Body 5x5mm, Pitch 0.5mm, IPC Medium Density)
footprint 32PN_L (QFN, 32-Leads, Body 5x5mm, Pitch 0.5mm, IPC High Density)
footprint 32PN_M (QFN, 32-Leads, Body 5x5mm, Pitch 0.5mm, IPC Low Density)
part A pins: 3 PA3 (INT1/ISRC/ADC3/PCINT3) (io), 4 AVCC (power), 5 AGND (power), 9 PA4 (MOSI/SDA/DI/ICP1/ADC4/PCINT4) (io), 10 PA5 (SCK/SCL/USCK/T1/ADC5/PCINT5) (io), 11 PA6 (~{SS}/AIN0/ADC6/PCINT6) (io), 12 PA7 (AREF/XREF/AIN1/ADC7/PCINT7) (io), 14 PB7 (dW/~{RESET}/OC1BX/ADC10/PCINT15) (io), 15 PB6 (INT0/OC1AX/ADC9/PCINT14) (io), 18 PB5 (PCINT13/ADC8/OC1BW/XTAL2/CLKO) (io), 19 PB4 (PCINT12/OC1AW/XTAL1/CLKI) (io), 20 VCC (power), 21 GND (power), 25 PB3 (PCINT11/OC1BV) (io), 26 PB2 (PCINT10/OC1AV/USCK/SCL) (io), 27 PB1 (PCINT9/OC1BU/DO) (io), 28 PB0 (PCINT8/OC1AU/DI/SDA) (io), 29 PA0 (PCINT0/ADC0/RXD/RXLIN) (io), 30 PA1 (PCINT1/ADC1/TXD/TXLIN) (io), 31 PA2 (PCINT2/ADC2/OC0A/DO/MISO) (io), 33 EP (power)
part B pins: 1 NC, 2 NC, 6 NC, 7 NC, 8 NC, 13 NC, 16 NC, 17 NC, 22 NC, 23 NC, 24 NC, 32 NC

## ATtiny87-15SZ
designator U?
8-bit Automotive AVR Microcontroller, 8KB Flash, 512 Bytes EEPROM, 512 Bytes SRAM, Automotive Grade (-40°C to +125°C), 20-Pin SOIC; Published: 1-Apr-2010; DatasheetVersion: revD, Jul-2009; PackageVersion: 2009; PackageReference: 20TG; Publisher: Altium Limited; PackageDescription: 20-pin, 0.300” Wide, Plastic Gull-Wing Small Outline (EIAJ SOIC); Supplier 1: Digi-Key; Supplier Part Number 1: ATTINY87-15SZ-ND; Supplier 2: Mouser; Supplier Part Number 2: 556-ATTINY87-15SZ; Code_JEDEC: MS-013-AC; Code_IPC: SOIC127P1030-20; ComponentLink1Description: Manufacturer Link; ComponentLink1URL: http://www.atmel.com/products/avr/default.asp?; ComponentLink2Description: ATtiny87/ATtiny167 Datasheet; ComponentLink2URL: http://www.atmel.com/dyn/resources/prod_documents/doc7728.pdf; ComponentLink3Description: Atmel.com Home; ComponentLink3URL: http://www.atmel.com
footprint 20TG_N (SOIC, 20-Leads, Body 12.8x7.5mm, Pitch 1.27mm, IPC Medium Density)
footprint 20TG_L (SOIC, 20-Leads, Body 12.8x7.5mm, Pitch 1.27mm, IPC High Density)
footprint 20TG_M (SOIC, 20-Leads, Body 12.8x7.5mm, Pitch 1.27mm, IPC Low Density)
pins: 1 PA0 (RXLIN/RXD/ADC0/PCINT0) (io), 2 PA1 (TXLIN/TXD/ADC1/PCINT1) (io), 3 PA2 (MISO/DO/OC0A/ADC2/PCINT2) (io), 4 PA3 (INT1/ISRC/ADC3/PCINT3) (io), 5 AVCC (power), 6 AGND (power), 7 PA4 (MOSI/SDA/DI/ICP1/ADC4/PCINT4) (io), 8 PA5 (SCK/SCL/USCK/T1/ADC5/PCINT5) (io), 9 PA6 (~{SS}/AIN0/ADC6/PCINT6) (io), 10 PA7 (AREF/XREF/AIN1/ADC7/PCINT7) (io), 11 PB7 (PCINT15/ADC10/OC1BX/~{RESET}/dW) (io), 12 PB6 (PCINT14/ADC9/OC1AX/INT0) (io), 13 PB5 (PCINT13/ADC8/OC1BW/XTAL2/CLKO) (io), 14 PB4 (PCINT12/OC1AW/XTAL1/CLKI) (io), 15 VCC (power), 16 GND (power), 17 PB3 (PCINT11/OC1BV) (io), 18 PB2 (PCINT10/OC1AV/USCK/SCL) (io), 19 PB1 (PCINT9/OC1BU/DO) (io), 20 PB0 (PCINT8/OC1AU/DI/SDA) (io)

## ATtiny87-15XD
designator U?
8-bit Automotive AVR Microcontroller, 8KB Flash, 512 Bytes EEPROM, 512 Bytes SRAM, Extended Grade (-40°C to +150°C), 20-Pin TSSOP; Published: 1-Apr-2010; DatasheetVersion: revD, Jul-2009; PackageVersion: revA, Dec-2007; PackageReference: 6G; Publisher: Altium Limited; PackageDescription: 20-Lead, 4.4 x 6.5 mm Body, 0.65 mm Pitch, Lead Length: 0.6 mm, Thin Shrink Small Outline Package (TSSOP); Code_JEDEC: MO-153-AC; ComponentLink1Description: Manufacturer Link; ComponentLink1URL: http://www.atmel.com/products/avr/default.asp?; ComponentLink2Description: ATtiny87/ATtiny167 Datasheet; ComponentLink2URL: http://www.atmel.com/dyn/resources/prod_documents/doc7728.pdf; ComponentLink3Description: ATtiny87/ATtiny167 Appendix; ComponentLink3URL: http://www.atmel.com/dyn/resources/prod_documents/doc7792.pdf; ComponentLink4Description: Atmel.com Home; ComponentLink4URL: http://www.atmel.com
footprint 6G_N (TSOP, 20-Leads, Body 6.5x4.4mm, Pitch 0.65mm, IPC Medium Density)
footprint 6G_L (TSOP, 20-Leads, Body 6.5x4.4mm, Pitch 0.65mm, IPC High Density)
footprint 6G_M (TSOP, 20-Leads, Body 6.5x4.4mm, Pitch 0.65mm, IPC Low Density)
pins: 1 PA0 (RXLIN/RXD/ADC0/PCINT0) (io), 2 PA1 (TXLIN/TXD/ADC1/PCINT1) (io), 3 PA2 (MISO/DO/OC0A/ADC2/PCINT2) (io), 4 PA3 (INT1/ISRC/ADC3/PCINT3) (io), 5 AVCC (power), 6 AGND (power), 7 PA4 (MOSI/SDA/DI/ICP1/ADC4/PCINT4) (io), 8 PA5 (SCK/SCL/USCK/T1/ADC5/PCINT5) (io), 9 PA6 (~{SS}/AIN0/ADC6/PCINT6) (io), 10 PA7 (AREF/XREF/AIN1/ADC7/PCINT7) (io), 11 PB7 (PCINT15/ADC10/OC1BX/~{RESET}/dW) (io), 12 PB6 (PCINT14/ADC9/OC1AX/INT0) (io), 13 PB5 (PCINT13/ADC8/OC1BW/XTAL2/CLKO) (io), 14 PB4 (PCINT12/OC1AW/XTAL1/CLKI) (io), 15 VCC (power), 16 GND (power), 17 PB3 (PCINT11/OC1BV) (io), 18 PB2 (PCINT10/OC1AV/USCK/SCL) (io), 19 PB1 (PCINT9/OC1BU/DO) (io), 20 PB0 (PCINT8/OC1AU/DI/SDA) (io)

## ATtiny87-15XZ
designator U?
8-bit Automotive AVR Microcontroller, 8KB Flash, 512 Bytes EEPROM, 512 Bytes SRAM, Automotive Grade (-40°C to +125°C), 20-Pin TSSOP; Published: 1-Apr-2010; DatasheetVersion: revD, Jul-2009; PackageVersion: revA, Dec-2007; PackageReference: 6G; Publisher: Altium Limited; PackageDescription: 20-Lead, 4.4 x 6.5 mm Body, 0.65 mm Pitch, Lead Length: 0.6 mm, Thin Shrink Small Outline Package (TSSOP); Supplier 1: Digi-Key; Supplier Part Number 1: ATTINY87-15XZ-ND; Supplier 2: Mouser; Supplier Part Number 2: 556-ATTINY87-15XZ; Code_JEDEC: MO-153-AC; ComponentLink1Description: Manufacturer Link; ComponentLink1URL: http://www.atmel.com/products/avr/default.asp?; ComponentLink2Description: ATtiny87/ATtiny167 Datasheet; ComponentLink2URL: http://www.atmel.com/dyn/resources/prod_documents/doc7728.pdf; ComponentLink3Description: Atmel.com Home; ComponentLink3URL: http://www.atmel.com
footprint 6G_N (TSOP, 20-Leads, Body 6.5x4.4mm, Pitch 0.65mm, IPC Medium Density)
footprint 6G_L (TSOP, 20-Leads, Body 6.5x4.4mm, Pitch 0.65mm, IPC High Density)
footprint 6G_M (TSOP, 20-Leads, Body 6.5x4.4mm, Pitch 0.65mm, IPC Low Density)
pins: 1 PA0 (RXLIN/RXD/ADC0/PCINT0) (io), 2 PA1 (TXLIN/TXD/ADC1/PCINT1) (io), 3 PA2 (MISO/DO/OC0A/ADC2/PCINT2) (io), 4 PA3 (INT1/ISRC/ADC3/PCINT3) (io), 5 AVCC (power), 6 AGND (power), 7 PA4 (MOSI/SDA/DI/ICP1/ADC4/PCINT4) (io), 8 PA5 (SCK/SCL/USCK/T1/ADC5/PCINT5) (io), 9 PA6 (~{SS}/AIN0/ADC6/PCINT6) (io), 10 PA7 (AREF/XREF/AIN1/ADC7/PCINT7) (io), 11 PB7 (PCINT15/ADC10/OC1BX/~{RESET}/dW) (io), 12 PB6 (PCINT14/ADC9/OC1AX/INT0) (io), 13 PB5 (PCINT13/ADC8/OC1BW/XTAL2/CLKO) (io), 14 PB4 (PCINT12/OC1AW/XTAL1/CLKI) (io), 15 VCC (power), 16 GND (power), 17 PB3 (PCINT11/OC1BV) (io), 18 PB2 (PCINT10/OC1AV/USCK/SCL) (io), 19 PB1 (PCINT9/OC1BU/DO) (io), 20 PB0 (PCINT8/OC1AU/DI/SDA) (io)

## ATtiny88-15AZ
designator U?
8-bit Automotive AVR Microcontroller, 8KB Flash, 64 Bytes EEPROM, 512 Bytes SRAM, Automotive Grade (-40°C to +125°C), 32-Pin TQFP; Published: 1-Apr-2010; DatasheetVersion: revB, Jan-2010; PackageVersion: revB, Jul-2007; PackageReference: 32MA; Publisher: Altium Limited; PackageDescription: 32-Lead Thin Profile Plastic Quad Flatpack (TQFP) - 7x7x1mm Body,  0.8 mm Pitch; Supplier 1: Digi-Key; Supplier Part Number 1: ATTINY88-15AZ-ND; Supplier 2: Mouser; Supplier Part Number 2: 556-ATTINY88-15AZ; ComponentLink1Description: Manufacturer Link; ComponentLink1URL: http://www.atmel.com/products/avr/default.asp?; ComponentLink2Description: ATtiny88 Datasheet; ComponentLink2URL: http://www.atmel.com/dyn/resources/prod_documents/doc9157.pdf; ComponentLink3Description: Atmel.com Home; ComponentLink3URL: http://www.atmel.com
footprint 32MA_N (Thin QFP, 32-Leads, Body 7x7mm, Pitch 0.8mm, IPC Medium Density)
footprint 32MA_L (Thin QFP, 32-Leads, Body 7x7mm, Pitch 0.8mm, IPC High Density)
footprint 32MA_M (Thin QFP, 32-Leads, Body 7x7mm, Pitch 0.8mm, IPC Low Density)
pins: 1 PD3 (PCINT19/INT1) (io), 2 PD4 (PCINT20/T0) (io), 3 PA2 (PCINT26) (io), 4 VCC (power), 5 GND (power), 6 PA3 (PCINT27) (io), 7 PB6 (PCINT6/CLKI) (io), 8 PB7 (PCINT7) (io), 9 PD5 (PCINT21/T1) (io), 10 PD6 (PCINT22/AIN0) (io), 11 PD7 (PCINT23/AIN1) (io), 12 PB0 (PCINT0/CLKO/ICP1) (io), 13 PB1 (PCINT1/OC1A) (io), 14 PB2 (PCINT2/~{SS}/OC1B) (io), 15 PB3 (PCINT3/MOSI) (io), 16 PB4 (PCINT4/MISO) (io), 17 PB5 (SCK/PCINT5) (io), 18 AVCC (power), 19 PA0 (ADC6/PCINT24) (io), 20 PC7 (PCINT15) (io), 21 GND (power), 22 PA1 (ADC7/PCINT25) (io), 23 PC0 (ADC0/PCINT8) (io), 24 PC1 (ADC1/PCINT9) (io), 25 PC2 (ADC2/PCINT10) (io), 26 PC3 (ADC3/PCINT11) (io), 27 PC4 (ADC4/SDA/PCINT12) (io), 28 PC5 (ADC5/SCL/PCINT13) (io), 29 PC6 (~{RESET}/PCINT14) (io), 30 PD0 (PCINT16) (io), 31 PD1 (PCINT17) (io), 32 PD2 (INT0/PCINT18) (io)

## ATtiny88-15MZ
designator U?
8-bit Automotive AVR Microcontroller, 8KB Flash, 64 Bytes EEPROM, 512 Bytes SRAM, Automotive Grade (-40°C to +125°C), 32-Pin VQFN; Published: 1-Apr-2010; DatasheetVersion: revB, Jan-2010; PackageVersion: revG, Nov-2008; PackageReference: 32PN; Publisher: Altium Limited; PackageDescription: 32-Pin Quad Flat No-Lead, 5 x 5 mm Body,  0.5 mm Pitch (QFN); Supplier 1: Digi-Key; Supplier Part Number 1: ATTINY88-15MZ-ND; Supplier 2: Mouser; Supplier Part Number 2: 556-ATTINY88-15MZ; Code_JEDEC: MO-220-VHHD-2; ComponentLink1Description: Manufacturer Link; ComponentLink1URL: http://www.atmel.com/products/avr/default.asp?; ComponentLink2Description: ATtiny88 Datasheet; ComponentLink2URL: http://www.atmel.com/dyn/resources/prod_documents/doc9157.pdf; ComponentLink3Description: Atmel.com Home; ComponentLink3URL: http://www.atmel.com
footprint 32PN_N (QFN, 32-Leads, Body 5x5mm, Pitch 0.5mm, IPC Medium Density)
footprint 32PN_L (QFN, 32-Leads, Body 5x5mm, Pitch 0.5mm, IPC High Density)
footprint 32PN_M (QFN, 32-Leads, Body 5x5mm, Pitch 0.5mm, IPC Low Density)
pins: 1 PD3 (PCINT19/INT1) (io), 2 PD4 (PCINT20/T0) (io), 3 PA2 (PCINT26) (io), 4 VCC (power), 5 GND (power), 6 PA3 (PCINT27) (io), 7 PB6 (PCINT6/CLKI) (io), 8 PB7 (PCINT7) (io), 9 PD5 (PCINT21/T1) (io), 10 PD6 (PCINT22/AIN0) (io), 11 PD7 (PCINT23/AIN1) (io), 12 PB0 (PCINT0/CLKO/ICP1) (io), 13 PB1 (PCINT1/OC1A) (io), 14 PB2 (PCINT2/~{SS}/OC1B) (io), 15 PB3 (PCINT3/MOSI) (io), 16 PB4 (PCINT4/MISO) (io), 17 PB5 (SCK/PCINT5) (io), 18 AVCC (power), 19 PA0 (ADC6/PCINT24) (io), 20 PC7 (PCINT15) (io), 21 GND (power), 22 PA1 (ADC7/PCINT25) (io), 23 PC0 (ADC0/PCINT8) (io), 24 PC1 (ADC1/PCINT9) (io), 25 PC2 (ADC2/PCINT10) (io), 26 PC3 (ADC3/PCINT11) (io), 27 PC4 (ADC4/SDA/PCINT12) (io), 28 PC5 (ADC5/SCL/PCINT13) (io), 29 PC6 (~{RESET}/PCINT14) (io), 30 PD0 (PCINT16) (io), 31 PD1 (PCINT17) (io), 32 PD2 (INT0/PCINT18) (io), 33 DAP

## ATtiny167-15MD
designator U?
8-bit Automotive AVR Microcontroller, 16KB Flash, 512 Bytes EEPROM, 512 Bytes SRAM, Extended Grade (-40°C to +150°C), 32-Pin VQFN; Published: 1-Apr-2010; DatasheetVersion: revD, Jul-2009; PackageVersion: revG, Nov-2008; PackageReference: 32PN; Publisher: Altium Limited; PackageDescription: 32-Pin Quad Flat No-Lead, 5 x 5 mm Body,  0.5 mm Pitch (QFN); Supplier 1: Digi-Key; Supplier Part Number 1: ATTINY167-15MD-ND; Supplier 2: Mouser; Supplier Part Number 2: 556-ATTINY167-15MD; Code_JEDEC: MO-220-VHHD-2; ComponentLink1Description: Manufacturer Link; ComponentLink1URL: http://www.atmel.com/products/avr/default.asp?; ComponentLink2Description: ATtiny87/ATtiny167 Datasheet; ComponentLink2URL: http://www.atmel.com/dyn/resources/prod_documents/doc7728.pdf; ComponentLink3Description: ATtiny87/ATtiny167 Appendix; ComponentLink3URL: http://www.atmel.com/dyn/resources/prod_documents/doc7792.pdf; ComponentLink4Description: Atmel.com Home; ComponentLink4URL: http://www.atmel.com
footprint 32PN_N (QFN, 32-Leads, Body 5x5mm, Pitch 0.5mm, IPC Medium Density)
footprint 32PN_L (QFN, 32-Leads, Body 5x5mm, Pitch 0.5mm, IPC High Density)
footprint 32PN_M (QFN, 32-Leads, Body 5x5mm, Pitch 0.5mm, IPC Low Density)
part A pins: 3 PA3 (INT1/ISRC/ADC3/PCINT3) (io), 4 AVCC (power), 5 AGND (power), 9 PA4 (MOSI/SDA/DI/ICP1/ADC4/PCINT4) (io), 10 PA5 (SCK/SCL/USCK/T1/ADC5/PCINT5) (io), 11 PA6 (~{SS}/AIN0/ADC6/PCINT6) (io), 12 PA7 (AREF/XREF/AIN1/ADC7/PCINT7) (io), 14 PB7 (dW/~{RESET}/OC1BX/ADC10/PCINT15) (io), 15 PB6 (INT0/OC1AX/ADC9/PCINT14) (io), 18 PB5 (PCINT13/ADC8/OC1BW/XTAL2/CLKO) (io), 19 PB4 (PCINT12/OC1AW/XTAL1/CLKI) (io), 20 VCC (power), 21 GND (power), 25 PB3 (PCINT11/OC1BV) (io), 26 PB2 (PCINT10/OC1AV/USCK/SCL) (io), 27 PB1 (PCINT9/OC1BU/DO) (io), 28 PB0 (PCINT8/OC1AU/DI/SDA) (io), 29 PA0 (PCINT0/ADC0/RXD/RXLIN) (io), 30 PA1 (PCINT1/ADC1/TXD/TXLIN) (io), 31 PA2 (PCINT2/ADC2/OC0A/DO/MISO) (io), 33 EP (power)
part B pins: 1 NC, 2 NC, 6 NC, 7 NC, 8 NC, 13 NC, 16 NC, 17 NC, 22 NC, 23 NC, 24 NC, 32 NC

## ATtiny167-15MZ
designator U?
8-bit Automotive AVR Microcontroller, 16KB Flash, 512 Bytes EEPROM, 512 Bytes SRAM, Automotive Grade (-40°C to +125°C), 32-Pin VQFN; Published: 1-Apr-2010; DatasheetVersion: revD, Jul-2009; PackageVersion: revG, Nov-2008; PackageReference: 32PN; Publisher: Altium Limited; PackageDescription: 32-Pin Quad Flat No-Lead, 5 x 5 mm Body,  0.5 mm Pitch (QFN); Supplier 1: Digi-Key; Supplier Part Number 1: ATTINY167-15MZ-ND; Supplier 2: Mouser; Supplier Part Number 2: 556-ATTINY167-15MZ; Code_JEDEC: MO-220-VHHD-2; ComponentLink1Description: Manufacturer Link; ComponentLink1URL: http://www.atmel.com/products/avr/default.asp?; ComponentLink2Description: ATtiny87/ATtiny167 Datasheet; ComponentLink2URL: http://www.atmel.com/dyn/resources/prod_documents/doc7728.pdf; ComponentLink3Description: Atmel.com Home; ComponentLink3URL: http://www.atmel.com
footprint 32PN_N (QFN, 32-Leads, Body 5x5mm, Pitch 0.5mm, IPC Medium Density)
footprint 32PN_L (QFN, 32-Leads, Body 5x5mm, Pitch 0.5mm, IPC High Density)
footprint 32PN_M (QFN, 32-Leads, Body 5x5mm, Pitch 0.5mm, IPC Low Density)
part A pins: 3 PA3 (INT1/ISRC/ADC3/PCINT3) (io), 4 AVCC (power), 5 AGND (power), 9 PA4 (MOSI/SDA/DI/ICP1/ADC4/PCINT4) (io), 10 PA5 (SCK/SCL/USCK/T1/ADC5/PCINT5) (io), 11 PA6 (~{SS}/AIN0/ADC6/PCINT6) (io), 12 PA7 (AREF/XREF/AIN1/ADC7/PCINT7) (io), 14 PB7 (dW/~{RESET}/OC1BX/ADC10/PCINT15) (io), 15 PB6 (INT0/OC1AX/ADC9/PCINT14) (io), 18 PB5 (PCINT13/ADC8/OC1BW/XTAL2/CLKO) (io), 19 PB4 (PCINT12/OC1AW/XTAL1/CLKI) (io), 20 VCC (power), 21 GND (power), 25 PB3 (PCINT11/OC1BV) (io), 26 PB2 (PCINT10/OC1AV/USCK/SCL) (io), 27 PB1 (PCINT9/OC1BU/DO) (io), 28 PB0 (PCINT8/OC1AU/DI/SDA) (io), 29 PA0 (PCINT0/ADC0/RXD/RXLIN) (io), 30 PA1 (PCINT1/ADC1/TXD/TXLIN) (io), 31 PA2 (PCINT2/ADC2/OC0A/DO/MISO) (io), 33 EP (power)
part B pins: 1 NC, 2 NC, 6 NC, 7 NC, 8 NC, 13 NC, 16 NC, 17 NC, 22 NC, 23 NC, 24 NC, 32 NC

## ATtiny167-15SZ
designator U?
8-bit Automotive AVR Microcontroller, 16KB Flash, 512 Bytes EEPROM, 512 Bytes SRAM, Automotive Grade (-40°C to +125°C), 20-Pin SOIC; Published: 1-Apr-2010; DatasheetVersion: revD, Jul-2009; PackageVersion: 2009; PackageReference: 20TG; Publisher: Altium Limited; PackageDescription: 20-pin, 0.300” Wide, Plastic Gull-Wing Small Outline (EIAJ SOIC); Supplier 1: Digi-Key; Supplier Part Number 1: ATTINY167-15SZ-ND; Supplier 2: Mouser; Supplier Part Number 2: 556-ATTINY167-15SZ; Code_JEDEC: MS-013-AC; Code_IPC: SOIC127P1030-20; ComponentLink1Description: Manufacturer Link; ComponentLink1URL: http://www.atmel.com/products/avr/default.asp?; ComponentLink2Description: ATtiny87/ATtiny167 Datasheet; ComponentLink2URL: http://www.atmel.com/dyn/resources/prod_documents/doc7728.pdf; ComponentLink3Description: Atmel.com Home; ComponentLink3URL: http://www.atmel.com
footprint 20TG_N (SOIC, 20-Leads, Body 12.8x7.5mm, Pitch 1.27mm, IPC Medium Density)
footprint 20TG_L (SOIC, 20-Leads, Body 12.8x7.5mm, Pitch 1.27mm, IPC High Density)
footprint 20TG_M (SOIC, 20-Leads, Body 12.8x7.5mm, Pitch 1.27mm, IPC Low Density)
pins: 1 PA0 (RXLIN/RXD/ADC0/PCINT0) (io), 2 PA1 (TXLIN/TXD/ADC1/PCINT1) (io), 3 PA2 (MISO/DO/OC0A/ADC2/PCINT2) (io), 4 PA3 (INT1/ISRC/ADC3/PCINT3) (io), 5 AVCC (power), 6 AGND (power), 7 PA4 (MOSI/SDA/DI/ICP1/ADC4/PCINT4) (io), 8 PA5 (SCK/SCL/USCK/T1/ADC5/PCINT5) (io), 9 PA6 (~{SS}/AIN0/ADC6/PCINT6) (io), 10 PA7 (AREF/XREF/AIN1/ADC7/PCINT7) (io), 11 PB7 (PCINT15/ADC10/OC1BX/~{RESET}/dW) (io), 12 PB6 (PCINT14/ADC9/OC1AX/INT0) (io), 13 PB5 (PCINT13/ADC8/OC1BW/XTAL2/CLKO) (io), 14 PB4 (PCINT12/OC1AW/XTAL1/CLKI) (io), 15 VCC (power), 16 GND (power), 17 PB3 (PCINT11/OC1BV) (io), 18 PB2 (PCINT10/OC1AV/USCK/SCL) (io), 19 PB1 (PCINT9/OC1BU/DO) (io), 20 PB0 (PCINT8/OC1AU/DI/SDA) (io)

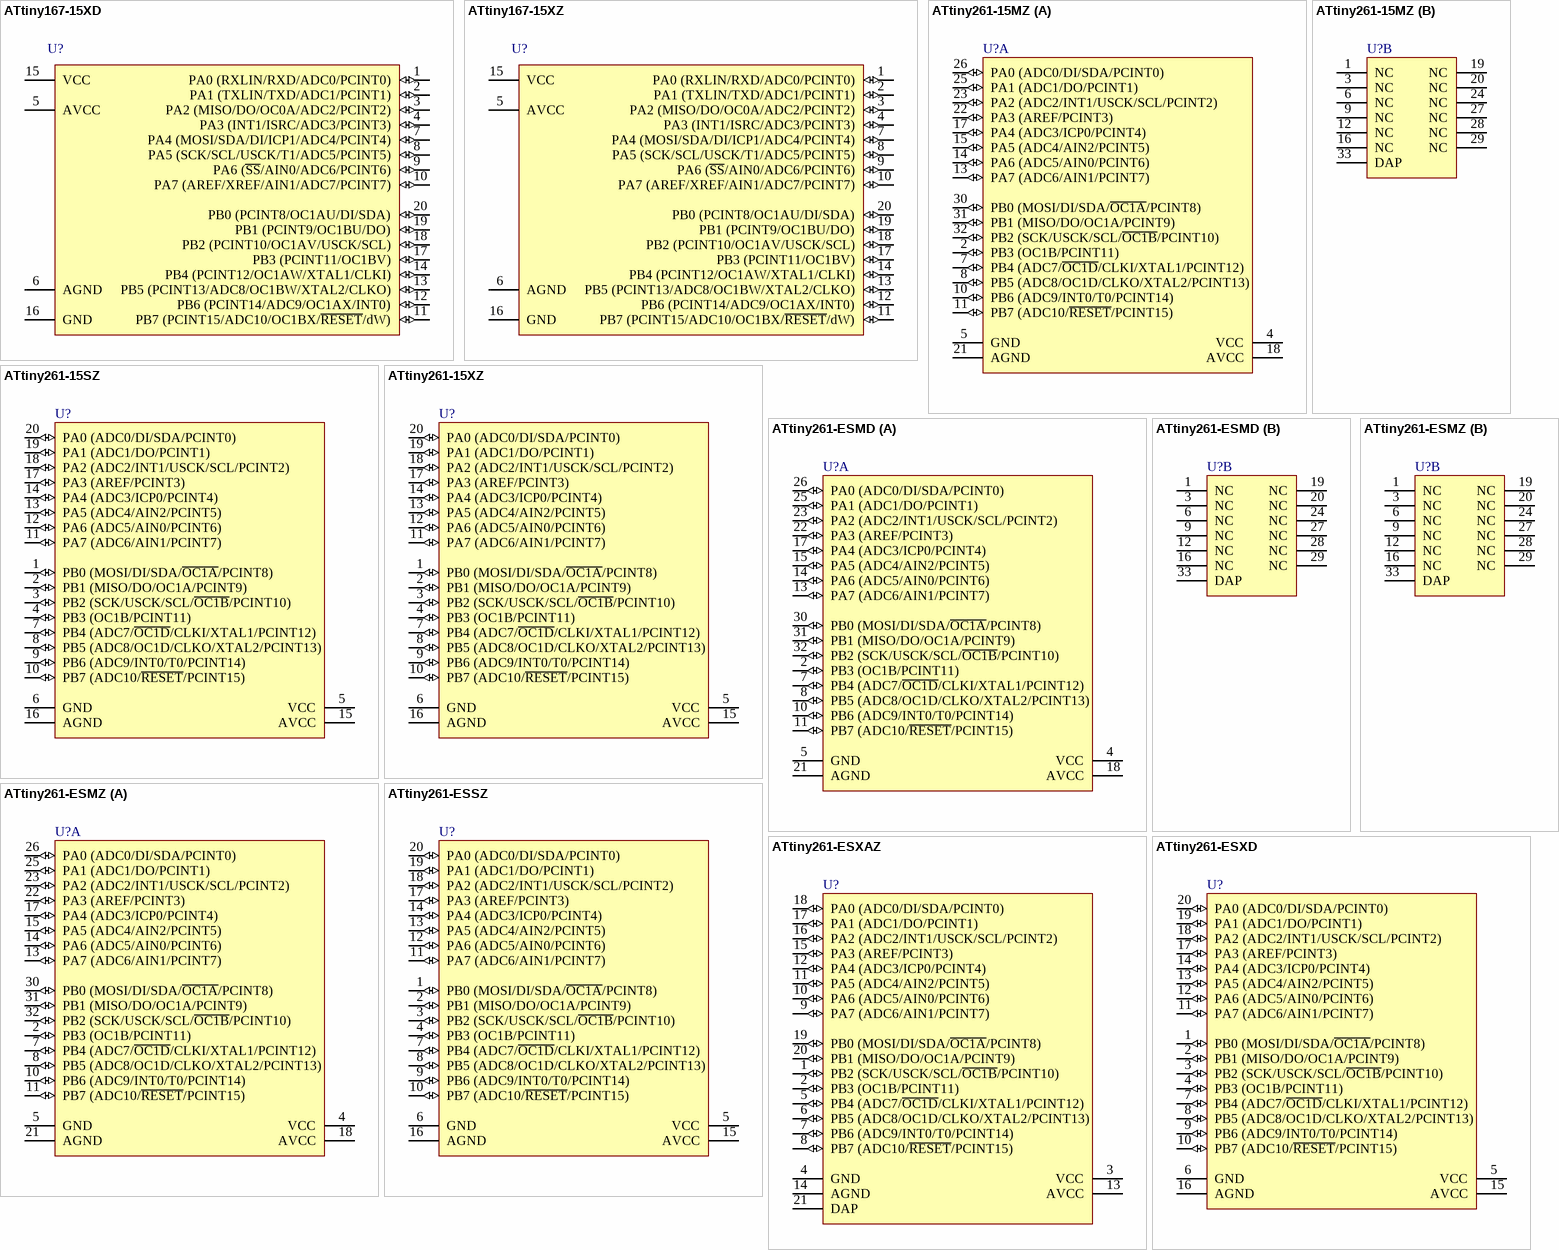
[diagram p19: symbols ATtiny167-15XD to ATtiny261-ESXD]

## ATtiny167-15XD
designator U?
8-bit Automotive AVR Microcontroller, 16KB Flash, 512 Bytes EEPROM, 512 Bytes SRAM, Extended Grade (-40°C to +150°C), 20-Pin TSSOP; Published: 1-Apr-2010; DatasheetVersion: revD, Jul-2009; PackageVersion: revA, Dec-2007; PackageReference: 6G; Publisher: Altium Limited; PackageDescription: 20-Lead, 4.4 x 6.5 mm Body, 0.65 mm Pitch, Lead Length: 0.6 mm, Thin Shrink Small Outline Package (TSSOP); Supplier 1: Digi-Key; Supplier Part Number 1: ATTINY167-15XD-ND; Supplier 2: Mouser; Supplier Part Number 2: 556-ATTINY167-15XD; Code_JEDEC: MO-153-AC; ComponentLink1Description: Manufacturer Link; ComponentLink1URL: http://www.atmel.com/products/avr/default.asp?; ComponentLink2Description: ATtiny87/ATtiny167 Datasheet; ComponentLink2URL: http://www.atmel.com/dyn/resources/prod_documents/doc7728.pdf; ComponentLink3Description: ATtiny87/ATtiny167 Appendix; ComponentLink3URL: http://www.atmel.com/dyn/resources/prod_documents/doc7792.pdf; ComponentLink4Description: Atmel.com Home; ComponentLink4URL: http://www.atmel.com
footprint 6G_N (TSOP, 20-Leads, Body 6.5x4.4mm, Pitch 0.65mm, IPC Medium Density)
footprint 6G_L (TSOP, 20-Leads, Body 6.5x4.4mm, Pitch 0.65mm, IPC High Density)
footprint 6G_M (TSOP, 20-Leads, Body 6.5x4.4mm, Pitch 0.65mm, IPC Low Density)
pins: 1 PA0 (RXLIN/RXD/ADC0/PCINT0) (io), 2 PA1 (TXLIN/TXD/ADC1/PCINT1) (io), 3 PA2 (MISO/DO/OC0A/ADC2/PCINT2) (io), 4 PA3 (INT1/ISRC/ADC3/PCINT3) (io), 5 AVCC (power), 6 AGND (power), 7 PA4 (MOSI/SDA/DI/ICP1/ADC4/PCINT4) (io), 8 PA5 (SCK/SCL/USCK/T1/ADC5/PCINT5) (io), 9 PA6 (~{SS}/AIN0/ADC6/PCINT6) (io), 10 PA7 (AREF/XREF/AIN1/ADC7/PCINT7) (io), 11 PB7 (PCINT15/ADC10/OC1BX/~{RESET}/dW) (io), 12 PB6 (PCINT14/ADC9/OC1AX/INT0) (io), 13 PB5 (PCINT13/ADC8/OC1BW/XTAL2/CLKO) (io), 14 PB4 (PCINT12/OC1AW/XTAL1/CLKI) (io), 15 VCC (power), 16 GND (power), 17 PB3 (PCINT11/OC1BV) (io), 18 PB2 (PCINT10/OC1AV/USCK/SCL) (io), 19 PB1 (PCINT9/OC1BU/DO) (io), 20 PB0 (PCINT8/OC1AU/DI/SDA) (io)

## ATtiny167-15XZ
designator U?
8-bit Automotive AVR Microcontroller, 16KB Flash, 512 Bytes EEPROM, 512 Bytes SRAM, Automotive Grade (-40°C to +125°C), 20-Pin TSSOP; Published: 1-Apr-2010; DatasheetVersion: revD, Jul-2009; PackageVersion: revA, Dec-2007; PackageReference: 6G; Publisher: Altium Limited; PackageDescription: 20-Lead, 4.4 x 6.5 mm Body, 0.65 mm Pitch, Lead Length: 0.6 mm, Thin Shrink Small Outline Package (TSSOP); Supplier 1: Digi-Key; Supplier Part Number 1: ATTINY167-15XZ-ND; Supplier 2: Mouser; Supplier Part Number 2: 556-ATTINY167-15XZ; Code_JEDEC: MO-153-AC; ComponentLink1Description: Manufacturer Link; ComponentLink1URL: http://www.atmel.com/products/avr/default.asp?; ComponentLink2Description: ATtiny87/ATtiny167 Datasheet; ComponentLink2URL: http://www.atmel.com/dyn/resources/prod_documents/doc7728.pdf; ComponentLink3Description: Atmel.com Home; ComponentLink3URL: http://www.atmel.com
footprint 6G_N (TSOP, 20-Leads, Body 6.5x4.4mm, Pitch 0.65mm, IPC Medium Density)
footprint 6G_L (TSOP, 20-Leads, Body 6.5x4.4mm, Pitch 0.65mm, IPC High Density)
footprint 6G_M (TSOP, 20-Leads, Body 6.5x4.4mm, Pitch 0.65mm, IPC Low Density)
pins: 1 PA0 (RXLIN/RXD/ADC0/PCINT0) (io), 2 PA1 (TXLIN/TXD/ADC1/PCINT1) (io), 3 PA2 (MISO/DO/OC0A/ADC2/PCINT2) (io), 4 PA3 (INT1/ISRC/ADC3/PCINT3) (io), 5 AVCC (power), 6 AGND (power), 7 PA4 (MOSI/SDA/DI/ICP1/ADC4/PCINT4) (io), 8 PA5 (SCK/SCL/USCK/T1/ADC5/PCINT5) (io), 9 PA6 (~{SS}/AIN0/ADC6/PCINT6) (io), 10 PA7 (AREF/XREF/AIN1/ADC7/PCINT7) (io), 11 PB7 (PCINT15/ADC10/OC1BX/~{RESET}/dW) (io), 12 PB6 (PCINT14/ADC9/OC1AX/INT0) (io), 13 PB5 (PCINT13/ADC8/OC1BW/XTAL2/CLKO) (io), 14 PB4 (PCINT12/OC1AW/XTAL1/CLKI) (io), 15 VCC (power), 16 GND (power), 17 PB3 (PCINT11/OC1BV) (io), 18 PB2 (PCINT10/OC1AV/USCK/SCL) (io), 19 PB1 (PCINT9/OC1BU/DO) (io), 20 PB0 (PCINT8/OC1AU/DI/SDA) (io)